# EAGLE library part SN74LV8151PW (library xess)
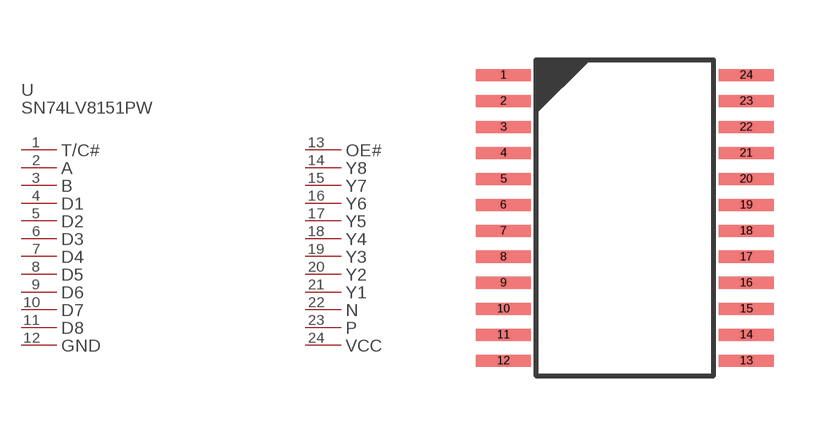
[diagram p116: symbol with the pads of SN74LV8151PW; footprint SN74LV8151PW]

Designator prefix U; gates PART_VALUE=PART_VALUE-SN74LV8151PW T/C#=PL-SN74LV8151PW A=PL-SN74LV8151PW B=PL-SN74LV8151PW D1=PL-SN74LV8151PW D2=PL-SN74LV8151PW D3=PL-SN74LV8151PW D4=PL-SN74LV8151PW D5=PL-SN74LV8151PW D6=PL-SN74LV8151PW D7=PL-SN74LV8151PW D8=PL-SN74LV8151PW GND=PL-SN74LV8151PW OE#=PL-SN74LV8151PW Y8=PL-SN74LV8151PW Y7=PL-SN74LV8151PW Y6=PL-SN74LV8151PW Y5=PL-SN74LV8151PW Y4=PL-SN74LV8151PW Y3=PL-SN74LV8151PW Y2=PL-SN74LV8151PW Y1=PL-SN74LV8151PW N=PL-SN74LV8151PW P=PL-SN74LV8151PW VCC=PL-SN74LV8151PW

## SN74LV8151PW  [SN74LV8151PW]
1  T/C#:P$1
2  A:P$1
3  B:P$1
4  D1:P$1
5  D2:P$1
6  D3:P$1
7  D4:P$1
8  D5:P$1
9  D6:P$1
10  D7:P$1
11  D8:P$1
12  GND:P$1
13  OE#:P$1
14  Y8:P$1
15  Y7:P$1
16  Y6:P$1
17  Y5:P$1
18  Y4:P$1
19  Y3:P$1
20  Y2:P$1
21  Y1:P$1
22  N:P$1
23  P:P$1
24  VCC:P$1

## Footprint SN74LV8151PW (pad centres in mm)
smd 1.37 x 0.3: 1 -0.11,0; 2 -0.11,-0.65; 3 -0.11,-1.3; 4 -0.11,-1.95; 5 -0.11,-2.6; 6 -0.11,-3.25; 7 -0.11,-3.9; 8 -0.11,-4.55; 9 -0.11,-5.2; 10 -0.11,-5.85; 11 -0.11,-6.5; 12 -0.11,-7.15; 13 5.96,-7.15; 14 5.96,-6.5; 15 5.96,-5.85; 16 5.96,-5.2; 17 5.96,-4.55; 18 5.96,-3.9; 19 5.96,-3.25; 20 5.96,-2.6; 21 5.96,-1.95; 22 5.96,-1.3; 23 5.96,-0.65; 24 5.96,0